# Altium footprint library LEDScreen.PcbLib: 1 footprints
Each footprint in its own frame and in the unit in brackets; x right, y up, seen from the top. Pads: shape width x height; smd on the part's side, far side on the other; paste and mask are expansions set on the pad; w line width, h text height; cw(c..) or ccw(c..) is an arc to the next point about the centre after c.
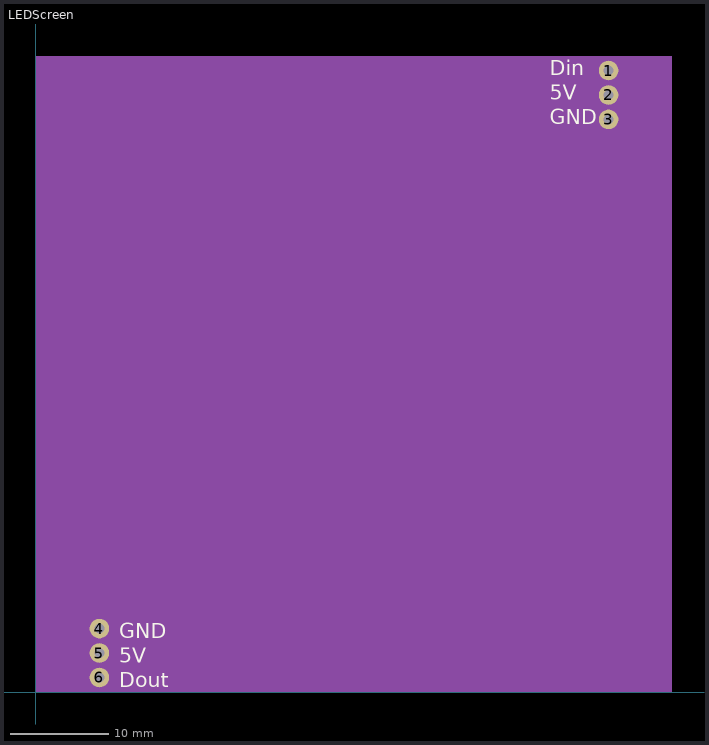
[diagram p0: the footprint, top view; thin cyan lines are the x and y axes]

## LEDScreen [mm]
pads (6):
  round 2 hole 1: 1(58.5,63.5) 2(58.5,61) 3(58.5,58.5) 4(6.5,6.5) 5(6.5,4) 6(6.5,1.5)
Top Overlay:
  text "Dout" at 8.5,0.5 h1.52
  text "5V" at 8.5,3 h1.52
  text "GND" at 8.5,5.5 h1.52
  text "GND" at 52.5,58 h1.52
  text "5V" at 52.5,60.5 h1.52
  text "Din" at 52.5,63 h1.52
Mechanical 1:
  rectangle: 0,0 65,65